# Altium schematic symbol library LM555CMMX_NOPB.Schlib: 1 symbol
Pins are listed as number, name and electrical type; pins without a type are passive.

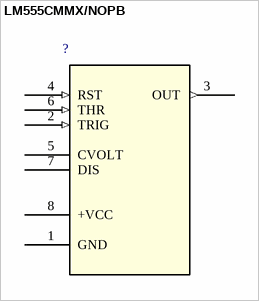
[diagram p0: symbol LM555CMMX/NOPB]

## LM555CMMX/NOPB
designator ?
No Description Available
pins: 1 GND (power), 2 TRIG (in), 3 OUT (out), 4 RST (in), 5 CVOLT, 6 THR (in), 7 DIS, 8 +VCC (power)